# EAGLE library part FTDI-M (library EXCISS)
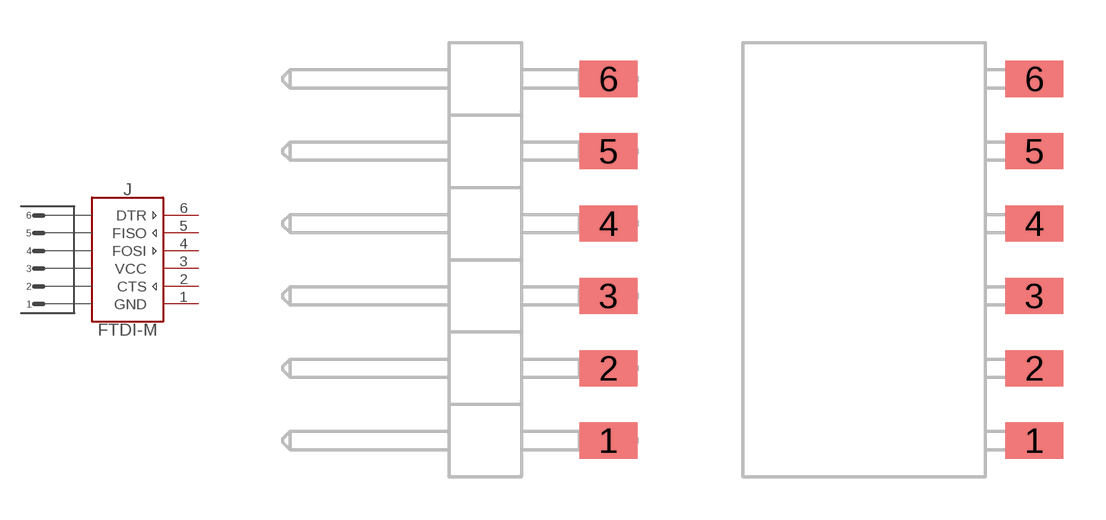
[diagram p12: symbol with the pads of 10027011-106HLF; footprints 10027011-106HLF, MPE_094-1-006]

Designator prefix J

## FTDI-M (OC_MOUSER: 649-10027011-106HLF)  [10027011-106HLF]
1  GND  pwr
2  CTS  in
3  VCC  pwr
4  FOSI  out
5  FISO  in
6  DTR  out

## FTDI-M-INV  [MPE_094-1-006]
Pads as for 10027011-106HLF

## Footprint 10027011-106HLF (pad centres in mm)
smd 2.032 x 1.27: 1 11.493,-6.35; 2 11.493,-3.81; 3 11.493,-1.27; 4 11.493,1.27; 5 11.493,3.81; 6 11.493,6.35

## Footprint MPE_094-1-006 (pad centres in mm)
smd 2.032 x 1.27: 1 10.223,-6.35; 2 10.223,-3.81; 3 10.223,-1.27; 4 10.223,1.27; 5 10.223,3.81; 6 10.223,6.35